# Altium footprint library Footprint-Lib-ABahlmann-CON.PcbLib: 53 footprints (part 4 of 4)
Each footprint in its own frame and in the unit in brackets; x right, y up, seen from the top. Pads: shape width x height; smd on the part's side, far side on the other; paste and mask are expansions set on the pad; w line width, h text height; cw(c..) or ccw(c..) is an arc to the next point about the centre after c.
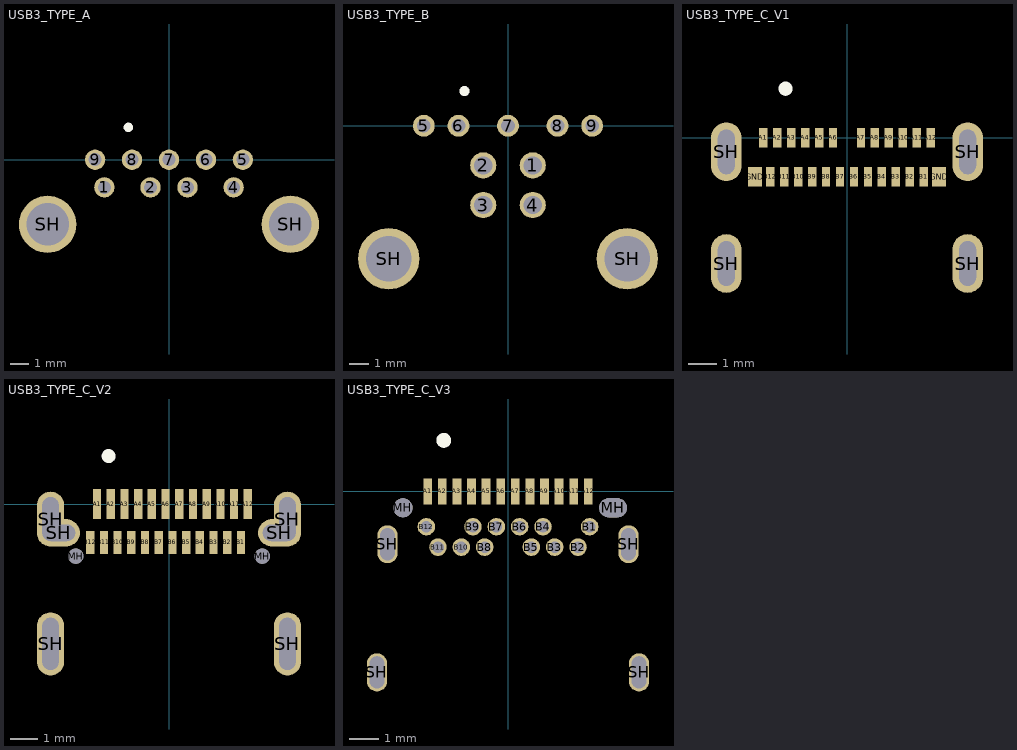
[diagram p3: the footprints below, top view; thin cyan lines are the x and y axes]

## USB3_TYPE_A [mm]
pads (11):
  round 1.1 hole 0.7: 1(-3.5,-1.5) 2(-1,-1.5) 3(1,-1.5) 4(3.5,-1.5) 5(4,0) 6(2,0) 7(0,0) 8(-2,0) 9(-4,0)
  round 3.1 hole 2.3: SH(-6.57,-3.5) SH(6.57,-3.5)
Top Overlay:
  circle w0.254: c-2.2,1.75 r0.127
3D body "54-00007.STEP": height 7.51, standoff -4.09, extent -7.7,-15.375 7.6,1.225

## USB3_TYPE_B [mm]
pads (11):
  round 1.32 hole 0.92: 1(1.25,-2) 2(-1.25,-2) 3(-1.25,-4) 4(1.25,-4)
  round 1.1 hole 0.7: 5(-4.25,0) 6(-2.5,0) 7(0,0) 8(2.5,0) 9(4.25,0)
  round 3.1 hole 2.3: SH(-6.02,-6.71) SH(6.02,-6.71)
Top Overlay:
  circle w0.254: c-2.2,1.75 r0.127
3D body "690p209-62c-022.STEP": height 13.16, standoff -3.71, extent -6.35,-17 6.35,1.55

## USB3_TYPE_C_V1 [mm] "USB4081-03-A"
pads (30):
  rect 0.3x0.7 smd mask+0.05: A1(-3,0) A2(-2.5,0) A3(-2,0) A4(-1.5,0) A5(-1,0) A6(-0.5,0) A7(0.5,0) A8(1,0) A9(1.5,0) A10(2,0) A11(2.5,0) A12(3,0) B1(2.75,-1.4) B2(2.25,-1.4) B3(1.75,-1.4) B4(1.25,-1.4) B5(0.75,-1.4) B6(0.25,-1.4) B7(-0.25,-1.4) B8(-0.75,-1.4) B9(-1.25,-1.4) B10(-1.75,-1.4) B11(-2.25,-1.4) B12(-2.75,-1.4)
  rect 0.5x0.7 smd mask+0.05: GND(-3.3,-1.4) GND(3.3,-1.4)
  oval 1.1x2.1 hole 0.6 slot 1.6 at 90 deg: SH(-4.32,-4.51) SH(-4.32,-0.51) SH(4.32,-4.51) SH(4.32,-0.51)
Top Overlay:
  circle w0.254: c-2.2,1.75 r0.127
3D body "USB4081-GF-A_revA.STEP": height 3.27, standoff -1.59, extent -4.47,-7.625 4.47,0.18

## USB3_TYPE_C_V2 [mm]
pads (32):
  rect 0.3x1.1 smd mask+0.05: A1(-2.625,0) A2(-2.125,0) A3(-1.625,0) A4(-1.125,0) A5(-0.625,0) A6(-0.125,0) A7(0.375,0) A8(0.875,0) A9(1.375,0) A10(1.875,0) A11(2.375,0) A12(2.875,0)
  rect 0.3x0.85 smd mask+0.05: B1(2.625,-1.4) B2(2.125,-1.4) B3(1.625,-1.4) B4(1.125,-1.4) B5(0.625,-1.4) B6(0.125,-1.4) B7(-0.375,-1.4) B8(-0.875,-1.4) B9(-1.375,-1.4) B10(-1.875,-1.4) B11(-2.375,-1.4) B12(-2.875,-1.4)
  round 0.55 hole 0.55 unplated: MH(-3.4,-1.9) MH(3.4,-1.9)
  oval 1x2.3 hole 0.6 slot 1.9 at 90 deg: SH(-4.32,-5.1) SH(4.32,-5.1)
  oval 1x2 hole 0.6 slot 1.6 at 90 deg: SH(-4.32,-0.55) SH(4.32,-0.55)
  oval 1.54x1 hole 0.6 slot 1.2 at 0 deg: SH(-4.02,-1.05) SH(4.02,-1.05)
Top Overlay:
  circle w0.254: c-2.2,1.75 r0.127
3D body "GSB3C3133DS2HR.STEP": height 3.27, standoff -1.69, extent -4.472,-7.807 4.472,0.293

## USB3_TYPE_C_V3 [mm]
pads (30):
  rect 0.3x0.9 smd mask+0.05: A1(-2.75,0) A2(-2.25,0) A3(-1.75,0) A4(-1.25,0) A5(-0.75,0) A6(-0.25,0) A7(0.25,0) A8(0.75,0) A9(1.25,0) A10(1.75,0) A11(2.25,0) A12(2.75,0)
  round 0.6 hole 0.4 mask+0.05: B1(2.8,-1.21) B2(2.4,-1.91) B3(1.6,-1.91) B4(1.2,-1.21) B5(0.8,-1.91) B6(0.4,-1.21) B7(-0.4,-1.21) B8(-0.8,-1.91) B9(-1.2,-1.21) B10(-1.6,-1.91) B11(-2.4,-1.91) B12(-2.8,-1.21)
  round 0.65 hole 0.65 unplated: MH(-3.6,-0.56)
  oval 0.95x0.65 hole 0.65 slot 0.95 at 0 deg unplated: MH(3.6,-0.56)
  oval 0.7x1.3 hole 0.5 slot 1.1 at 90 deg: SH(-4.49,-6.2) SH(-4.13,-1.81) SH(4.13,-1.81) SH(4.49,-6.2)
Top Overlay:
  circle w0.254: c-2.2,1.75 r0.127
3D body "GSB3CA11310DSHR.STEP": height 3.33, standoff -1.38, extent -4.925,-8.729 4.925,1.141